# EAGLE library part ESQ-112-37-G-S (library apu-csk-motherboard)
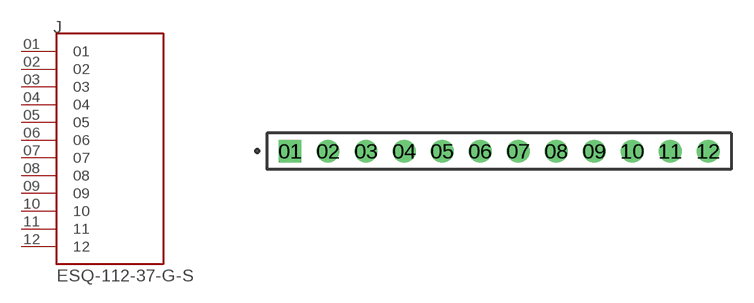
[diagram p3: symbol with the pads of SAMTEC_ESQ-112-37-G-S; footprint SAMTEC_ESQ-112-37-G-S]

Designator prefix J

## ESQ-112-37-G-S (MANUFACTURER: Samtec; PARTREV: R; STANDARD: Manufacturer Recommendations)  [SAMTEC_ESQ-112-37-G-S]
01  01  pas
02  02  pas
03  03  pas
04  04  pas
05  05  pas
06  06  pas
07  07  pas
08  08  pas
09  09  pas
10  10  pas
11  11  pas
12  12  pas

## Footprint SAMTEC_ESQ-112-37-G-S (pad centres in mm)
drill 1.02 pad 1.37 square: 01 0,0
drill 1.02 pad 1.37: 02 2.54,0; 03 5.08,0; 04 7.62,0; 05 10.16,0; 06 12.7,0; 07 15.24,0; 08 17.78,0; 09 20.32,0; 10 22.86,0; 11 25.4,0; 12 27.94,0